# EAGLE library part FTDI_PIN_HEADER (library Nwazet.Go)
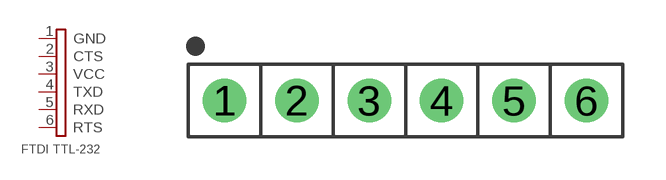
[diagram p21: symbol with the pads of FTDI_PIN_HEADER; footprint FTDI_PIN_HEADER]

Designator prefix -

## FTDI_PIN_HEADER  [FTDI_PIN_HEADER]
1  GND  pas
2  CTS
3  VCC  pwr
4  TXD
5  RXD
6  RTS

## Footprint FTDI_PIN_HEADER (pad centres in mm)
drill 1.016: 1 -6.35,0; 2 -3.81,0; 3 -1.27,0; 4 1.27,0; 5 3.81,0; 6 6.35,0